# Altium integrated library 传感器.IntLib: 13 symbols
Pins are listed as number, name and electrical type; pins without a type are passive.

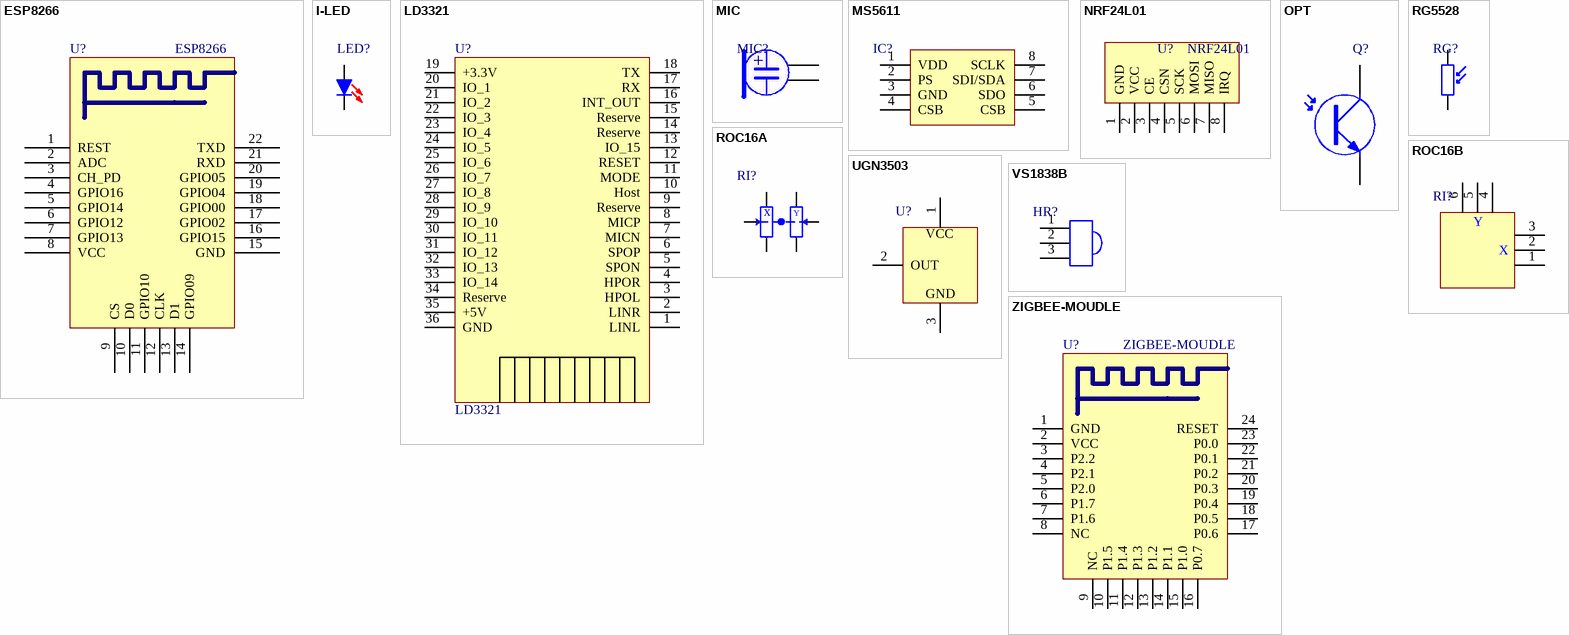
[diagram p0: symbols ESP8266 to ZIGBEE-MOUDLE]

## ESP8266
designator U?
ESP8266无线模块
footprint ESP_12
pins: 1 REST, 2 ADC, 3 CH_PD, 4 GPIO16, 5 GPIO14, 6 GPIO12, 7 GPIO13, 8 VCC, 9 CS, 10 D0, 11 GPIO10, 12 CLK, 13 D1, 14 GPIO09, 15 GND, 16 GPIO15, 17 GPIO02, 18 GPIO00, 19 GPIO04, 20 GPIO05, 21 RXD, 22 TXD

## I-LED
designator LED?
红外二极管
footprint I-LED-3MM
footprint I-LED-5MM
pins: 1 A, 2 K

## LD3321
designator U?
footprint V290Pub
pins: 1 LINL, 2 LINR, 3 HPOL, 4 HPOR, 5 SPON, 6 SPOP, 7 MICN, 8 MICP, 9 Reserve, 10 Host, 11 MODE, 12 RESET, 13 IO_15, 14 Reserve, 15 Reserve, 16 INT_OUT, 17 RX, 18 TX, 19 +3.3V, 20 IO_1, 21 IO_2, 22 IO_3, 23 IO_4, 24 IO_5, 25 IO_6, 26 IO_7, 27 IO_8, 28 IO_9, 29 IO_10, 30 IO_11, 31 IO_12, 32 IO_13, 33 IO_14, 34 Reserve, 35 +5V, 36 GND

## MIC
designator MIC?
电容麦克风
footprint MIC-4.5X1.9
footprint MIC-6X5.5mm
pins: 1, 2
text: +

## MS5611
designator IC?
气压传感器
footprint MS5611 (气压传感芯片)
pins: 1 VDD, 2 PS, 3 GND, 4 CSB, 5 CSB, 6 SDO, 7 SDI/SDA, 8 SCLK

## NRF24L01
designator U?
2.4G无线模块
footprint NRF24L01
pins: 1 GND, 2 VCC, 3 CE, 4 CSN, 5 SCK, 6 MOSI, 7 MISO, 8 IRQ

## OPT
designator Q?
红外接收管
footprint OPT-3MM (3mm红外接收管)
footprint OPT-5MM (5mm红外接收管)
pins: 1, 2

## RG5528
designator RG?
光敏电阻
footprint RG5528 (光敏电阻 脚距：3mm)
pins: 1, 2

## ROC16A
designator RI?
摇杆电位器
footprint ROC16 (摇杆电位器，长16mm，宽16mm，高12.2mm)
pins: 1, 2, 3, 4, 5, 6
text: x; Y

## ROC16B
designator RI?
摇杆电位器
footprint ROC16 (摇杆电位器，长16mm，宽16mm，高12.2mm)
pins: 1, 2, 3, 4, 5, 6
text: Y; X

## UGN3503
designator U?
线性霍尔传感器
footprint VS1838B-A (一体红外接收头)
footprint VS1838B-B (一体红外接收头)
footprint VS1838B-B_H (卧式一体红外接收头)
footprint VS1838B-A_H (卧式一体红外接收头)
pins: 1 VCC, 2 OUT, 3 GND

## VS1838B
designator HR?
红外接收头
footprint VS1838B-A (一体红外接收头)
footprint VS1838B-B (一体红外接收头)
footprint VS1838B-B_H (卧式一体红外接收头)
footprint VS1838B-A_H (卧式一体红外接收头)
pins: 1 A "Anode", 2 K "Cathode", 3 E "Emitter"

## ZIGBEE-MOUDLE
designator U?
Zigbee模块
footprint ZIGBEE_MOUDLE (Footprint not found)
footprint ZIGBEE-MOUDLE
pins: 1 GND, 2 VCC, 3 P2.2, 4 P2.1, 5 P2.0, 6 P1.7, 7 P1.6, 8 NC, 9 NC, 10 P1.5, 11 P1.4, 12 P1.3, 13 P1.2, 14 P1.1, 15 P1.0, 16 P0.7, 17 P0.6, 18 P0.5, 19 P0.4, 20 P0.3, 21 P0.2, 22 P0.1, 23 P0.0, 24 RESET